# Altium footprint library PcbLib1.PcbLib: 25 footprints (part 1 of 2)
Each footprint in its own frame and in the unit in brackets; x right, y up, seen from the top. Pads: shape width x height; smd on the part's side, far side on the other; paste and mask are expansions set on the pad; w line width, h text height; cw(c..) or ccw(c..) is an arc to the next point about the centre after c.
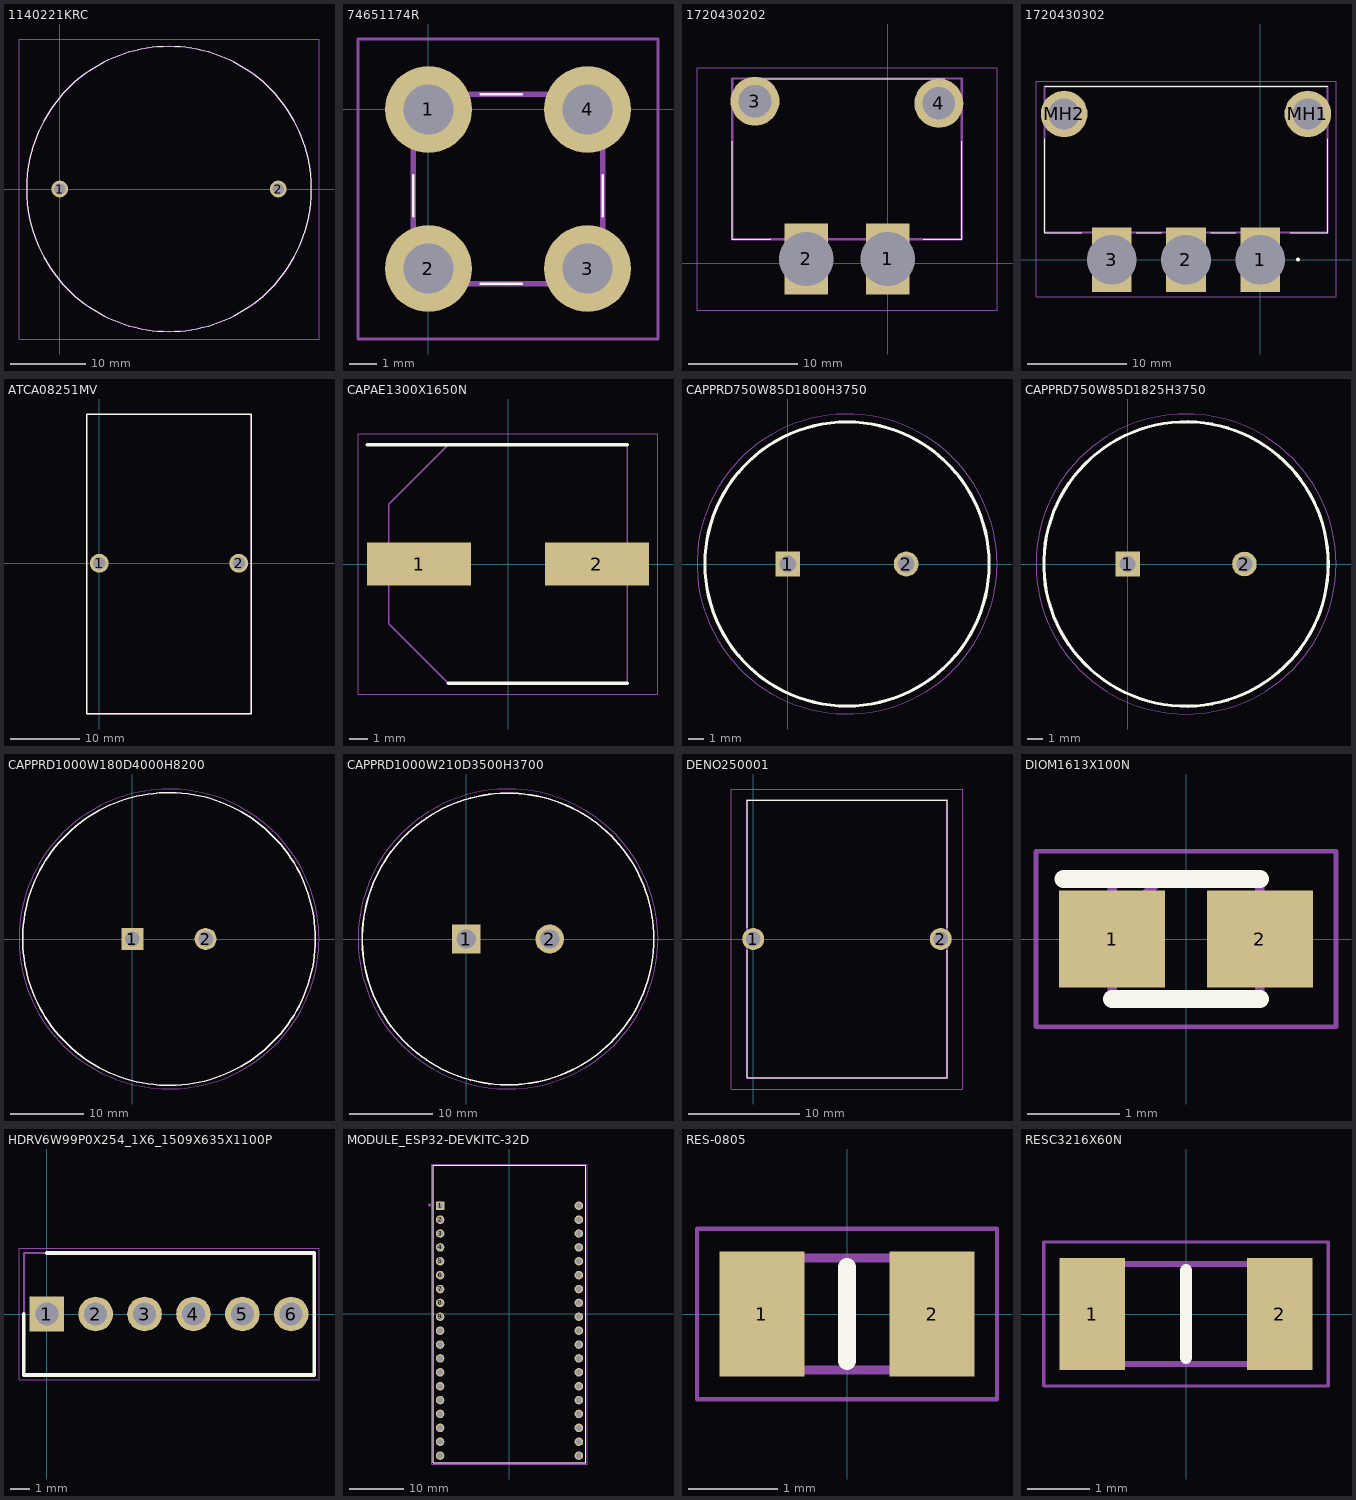
[diagram p0: the footprints below, top view; thin cyan lines are the x and y axes]

## 1140221KRC [mm]
pads (2):
  round 2.243 hole 1.495: 1(0,0) 2(29.21,0)
Top Overlay:
  lines w0.1: 14.605,-19.05 cw(c14.605,0) 14.605,19.05 cw(c14.605,0) 14.605,-19.05
Mechanical 13:
  lines w0.2: 14.605,-19.05 cw(c14.605,0) 14.605,19.05 cw(c14.605,0) 14.605,-19.05
Mechanical 15:
  lines w0.1: -5.445,-20.05 34.655,-20.05 34.655,20.05 -5.445,20.05 -5.445,-20.05
3D body "1140-221K-RC.stp": height 26.53, standoff -12.33, extent -4.44,-19.05 33.66,19.05

## 74651174R [mm]
pads (4):
  round 3.2 hole 1.85: 1(0,0) 2(0,-5.87) 3(5.87,-5.87) 4(5.87,0)
Top Overlay:
  lines w0.1: -0.565,-3.935 -0.565,-2.435 ; 1.935,-6.435 3.435,-6.435 ; 1.935,0.565 3.435,0.565 ; 6.435,-3.935 6.435,-2.435
Mechanical 13:
  lines w0.2: -0.565,-6.435 6.435,-6.435 6.435,0.565 -0.565,0.565 -0.565,-6.435
Mechanical 15:
  lines w0.1: -2.6,-8.47 8.47,-8.47 8.47,2.6 -2.6,2.6 -2.6,-8.47
3D body "74651174 (rev1).stp": height 8, standoff -3, extent -0.5,-6.5 6.5,0.5

## 1720430202 [mm]
pads (4):
  rect 4x6.5 hole 5 square: 1(0,0.4) 2(-7.49,0.4)
  round 4.5 hole 3: 3(-12.2,14.9) 4(4.7,14.7)
Top Overlay:
  lines w0.1: -14.28,11.21 -14.28,2.21 -10.745,2.21 ; -12.745,16.97 5.255,16.97 ; 3.255,2.21 6.795,2.21 6.795,11.21
Mechanical 13:
  lines w0.2: -14.285,2.21 -14.285,16.97 6.795,16.97 6.795,2.21 -14.285,2.21
Mechanical 15:
  lines w0.1: -17.53,-4.311 -17.53,17.97 10.04,17.97 10.04,-4.311 -17.53,-4.311
3D body "1720430202.stp": height 13.4, standoff -3.8, extent -14.141,-2 6.941,17.875

## 1720430302 [mm]
pads (5):
  rect 4x6.5 hole 5 square: 1(0,0) 2(-7.49,0) 3(-14.98,0)
  round 4.695 hole 3.13: MH1(4.8,14.715) MH2(-19.78,14.715)
Top Overlay:
  lines w0.1: -21.77,12.235 -21.77,2.735 -17.99,2.735 ; -21.77,17.495 6.81,17.495 ; -12.49,2.735 -9.99,2.735 ; -4.99,2.735 -2.49,2.735 ; 3.01,2.735 6.81,2.735 6.81,12.235
  lines w0.2: 3.81,-0.065 cw(c3.81,0.035) 3.81,0.135 cw(c3.81,0.035) 3.81,-0.065
Mechanical 13:
  lines w0.2: -21.77,2.735 6.81,2.735 6.81,17.495 -21.77,17.495 -21.77,2.735
Mechanical 15:
  lines w0.1: -22.628,-3.71 7.648,-3.71 7.648,17.995 -22.628,17.995 -22.628,-3.71
3D body "1720430302.stp": height 13.4, standoff -3.8, extent -21.788,-2.175 6.788,17.7

## ATCA08251MV [mm]
pads (2):
  round 2.7 hole 1.8: 1(0,0) 2(20,0)
Top Overlay:
  lines w0.2: -1.8,-21.6 21.8,-21.6 21.8,21.4 -1.8,21.4 -1.8,-21.6
Mechanical 13:
  lines w0.1: -1.8,-21.6 21.8,-21.6 21.8,21.4 -1.8,21.4 -1.8,-21.6
Mechanical 15:
  lines w0.1: -1.8,-21.6 21.8,-21.6 21.8,21.4 -1.8,21.4 -1.8,-21.6
3D body "ATCA-08-251M-V--3DModel-STEP-56544.STEP": height 45.23, standoff -12.41, extent -0.915,-21.566 21.021,21.366

## CAPAE1300X1650N [mm]
pads (2):
  rect 5.65x2.35 smd: 1(-4.85,0) 2(4.85,0)
Top Overlay:
  lines w0.2: -7.675,6.5 6.5,6.5 ; -3.25,-6.5 6.5,-6.5
Mechanical 13:
  lines w0.1: -6.5,-3.25 -3.25,-6.5 6.5,-6.5 6.5,6.5 -3.25,6.5 -6.5,3.25 -6.5,-3.25
Mechanical 15:
  lines w0.05: -8.175,-7.1 -8.175,7.1 8.175,7.1 8.175,-7.1 -8.175,-7.1
3D body "EMHS500ARA471MKG5S.stp": height 16.5, standoff 0, extent -6.95,-6.6 6.95,6.6

## CAPPRD750W85D1800H3750 [mm]
pads (2):
  rect 1.575x1.575 hole 1.05: 1(0,0)
  round 1.575 hole 1.05: 2(7.5,0)
Top Overlay:
  circle w0.2: c3.75,0 r9
Mechanical 13:
  circle w0.1: c3.75,0 r9
Mechanical 15:
  circle w0.05: c3.75,0 r9.5
3D body "ECA-2AHG102.stp": height 37.5, standoff -10, extent -5.5,-9.245 13,9.245

## CAPPRD750W85D1825H3750 [mm]
pads (2):
  rect 1.575x1.575 hole 1.05: 1(0,0)
  round 1.575 hole 1.05: 2(7.5,0)
Top Overlay:
  circle w0.2: c3.75,0 r9.125
Mechanical 13:
  circle w0.1: c3.75,0 r9.125
Mechanical 15:
  circle w0.05: c3.75,0 r9.625
3D body "ECA2AM102.stp": height 37.5, standoff -10, extent -5.5,-9.245 13,9.245

## CAPPRD1000W180D4000H8200 [mm]
pads (2):
  rect 3x3 hole 2: 1(0,0)
  round 3 hole 2: 2(10,0)
Top Overlay:
  circle w0.2: c5,0 r20
Mechanical 13:
  circle w0.1: c5,0 r20
Mechanical 15:
  circle w0.05: c5,0 r20.5
3D body "ALC10A102EL450.stp": height 82, standoff -10, extent -15.5,-20.489 25.5,20.489

## CAPPRD1000W210D3500H3700 [mm]
pads (2):
  rect 3.45x3.45 hole 2.3: 1(0,0)
  round 3.45 hole 2.3: 2(10,0)
Top Overlay:
  circle w0.2: c5,0 r17.5
Mechanical 13:
  circle w0.1: c5,0 r17.5
Mechanical 15:
  circle w0.05: c5,0 r18
3D body "MAL225966471E3.stp": height 37, standoff -10, extent -12.5,-17.495 22.5,17.495

## DENO250001 [mm]
pads (2):
  round 1.98 hole 1.32: 1(0,0) 2(16.88,0)
Top Overlay:
  lines w0.1: -0.56,-1 -0.56,-12.5 17.44,-12.5 17.44,-1 ; -0.56,1 -0.56,12.5 17.44,12.5 17.44,1
Mechanical 13:
  lines w0.2: -0.56,-12.5 -0.56,12.5 17.44,12.5 17.44,-12.5 -0.56,-12.5
Mechanical 15:
  lines w0.1: -1.99,-13.5 -1.99,13.5 18.87,13.5 18.87,-13.5 -1.99,-13.5
3D body "DENO-25-0001.stp": height 25.1, standoff -5, extent -0.56,-12.5 17.44,12.5

## DIOM1613X100N [mm]
pads (2):
  rect 1.15x1.05 smd: 1(-0.8,0) 2(0.8,0)
Top Overlay:
  lines w0.2: -1.325,0.65 0.8,0.65 ; -0.8,-0.65 0.8,-0.65
Mechanical 13:
  lines w0.1: -0.8,0.125 -0.275,0.65 ; -0.8,-0.65 -0.8,0.65 0.8,0.65 0.8,-0.65 -0.8,-0.65
Mechanical 15:
  lines w0.05: -1.625,-0.95 -1.625,0.95 1.625,0.95 1.625,-0.95 -1.625,-0.95
3D body "SD0805S020S1R0.stp": height 1, standoff 0, extent -0.8,-0.65 0.8,0.65

## HDRV6W99P0X254_1X6_1509X635X1100P [mm]
pads (6):
  rect 1.8x1.8 hole 1.2: 1(0,0)
  round 1.8 hole 1.2: 2(2.54,0) 3(5.08,0) 4(7.62,0) 5(10.16,0) 6(12.7,0)
Top Overlay:
  lines w0.2: -1.195,0 -1.195,-3.175 13.895,-3.175 13.895,3.175 0,3.175
Mechanical 13:
  lines w0.1: -1.195,-3.175 13.895,-3.175 13.895,3.175 -1.195,3.175 -1.195,-3.175
Mechanical 15:
  lines w0.05: -1.445,-3.425 14.145,-3.425 14.145,3.425 -1.445,3.425 -1.445,-3.425
3D body "1718560006.stp": height 10.63, standoff -2.32, extent -1.144,-3.175 13.944,3.175

## MODULE_ESP32-DEVKITC-32D [mm]
pads (38):
  rect 1.56x1.56 hole 1.04: 1(-12.7,19.76)
  round 1.56 hole 1.04: 2(-12.7,17.22) 3(-12.7,14.68) 4(-12.7,12.14) 5(-12.7,9.6) 6(-12.7,7.06) 7(-12.7,4.52) 8(-12.7,1.98) 9(-12.7,-0.56) 10(-12.7,-3.1) 11(-12.7,-5.64) 12(-12.7,-8.18) 13(-12.7,-10.72) 14(-12.7,-13.26) 15(-12.7,-15.8) 16(-12.7,-18.34) 17(-12.7,-20.88) 18(-12.7,-23.42) 19(-12.7,-25.96) 20(12.7,19.76) 21(12.7,17.22) 22(12.7,14.68) 23(12.7,12.14) 24(12.7,9.6) 25(12.7,7.06) 26(12.7,4.52) 27(12.7,1.98) 28(12.7,-0.56) 29(12.7,-3.1) 30(12.7,-5.64) 31(12.7,-8.18) 32(12.7,-10.72) 33(12.7,-13.26) 34(12.7,-15.8) 35(12.7,-18.34) 36(12.7,-20.88) 37(12.7,-23.42) 38(12.7,-25.96)
Top Overlay:
  lines w0.127: -13.95,-27.25 13.95,-27.25 13.95,27.15 -13.95,27.15 -13.95,-27.25
Mechanical 13:
  circle w0.28: c-14.6,19.9 r0.14
  lines w0.127: -13.95,-27.25 -13.95,27.15 13.95,27.15 13.95,-27.25 -13.95,-27.25
Mechanical 15:
  lines w0.05: -14.2,-27.5 -14.2,27.4 14.2,27.4 14.2,-27.5 -14.2,-27.5
3D body "step_temp.STEP": height 6.7, standoff -5.99, extent -14.097,-27.931 13.843,27.169

## RES-0805 [mm]
pads (2):
  rect 0.95x1.4 smd: 1(-0.95,0) 2(0.95,0)
Top Overlay:
  lines w0.2: 0,-0.525 0,0.525
Mechanical 13:
  lines w0.1: -1,-0.625 -1,0.625 1,0.625 1,-0.625 -1,-0.625
Mechanical 15:
  lines w0.05: -1.675,-0.95 -1.675,0.95 1.675,0.95 1.675,-0.95 -1.675,-0.95
3D body "RC0805JR-131KL.stp": height 0.6, standoff 0, extent -1,-0.625 1,0.625

## RESC3216X60N [mm]
pads (2):
  rect 1.05x1.8 smd: 1(-1.5,0) 2(1.5,0)
Top Overlay:
  lines w0.2: 0,-0.7 0,0.7
Mechanical 13:
  lines w0.1: -1.575,-0.8 -1.575,0.8 1.575,0.8 1.575,-0.8 -1.575,-0.8
Mechanical 15:
  lines w0.05: -2.275,-1.15 -2.275,1.15 2.275,1.15 2.275,-1.15 -2.275,-1.15
3D body "CRCW120610K0JNEAC.stp": height 0.6, standoff 0, extent -1.575,-0.8 1.575,0.8